# Altium footprint library PcbLib1.PcbLib: 2 footprints
Each footprint in its own frame and in the unit in brackets; x right, y up, seen from the top. Pads: shape width x height; smd on the part's side, far side on the other; paste and mask are expansions set on the pad; w line width, h text height; cw(c..) or ccw(c..) is an arc to the next point about the centre after c.
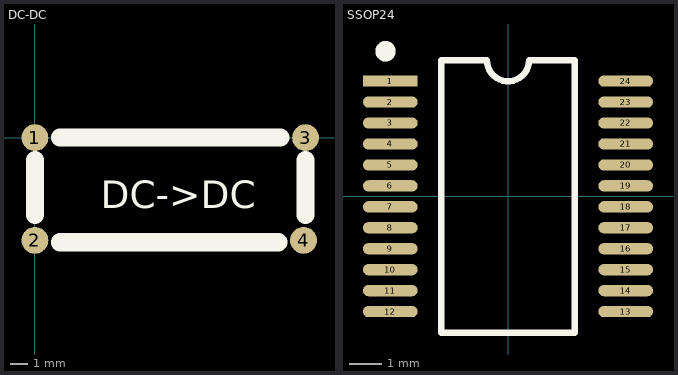
[diagram p0: the footprints below, top view; thin cyan lines are the x and y axes]

## DC-DC [mm] "降压模块"
pads (5):
  round 1.5 smd mask+0.102: 1(0,0)
  round 1.5 smd mask+0.064: 2(0,-5.74) 3(15.113,0) 4(15,-5.74)
  round 0 smd mask+0.064: 3(-0.889,0)
Top Overlay:
  lines w1.016: 0,-4.318 0,-1.27 ; 1.397,-5.842 13.589,-5.842 ; 1.397,0 13.716,0 ; 15.113,-4.318 15.113,-1.27
  text "DC->DC" at 3.683,-3.937 h1.52

## SSOP24 [mm] "8.3*7.8*1.6"
pads (24):
  rect 1.7x0.35 smd: 1(-3.65,3.575)
  oval 1.7x0.35 smd: 2(-3.65,2.925) 3(-3.65,2.275) 4(-3.65,1.625) 5(-3.65,0.975) 6(-3.65,0.325) 7(-3.65,-0.325) 8(-3.65,-0.975) 9(-3.65,-1.625) 10(-3.65,-2.275) 11(-3.65,-2.925) 12(-3.65,-3.575) 13(3.65,-3.575) 14(3.65,-2.925) 15(3.65,-2.275) 16(3.65,-1.625) 17(3.65,-0.975) 18(3.65,-0.325) 19(3.65,0.325) 20(3.65,0.975) 21(3.65,1.625) 22(3.65,2.275) 23(3.65,2.925) 24(3.65,3.575)
Top Overlay:
  circle w0.381: c-3.8,4.5 r0.127
  lines w0.2: -2.065,-4.225 2.065,-4.225 2.065,4.225 0.655,4.225 cw(c0,4.225) -0.655,4.225 -2.065,4.225 -2.065,-4.225
3D body "SSOP24.STEP": height 1.65, standoff -0.03, extent -3.852,-4.15 3.852,4.15